# EAGLE library part NEO-6M-GPS (library NEO-6M-GPS)
SMD GPS Module;
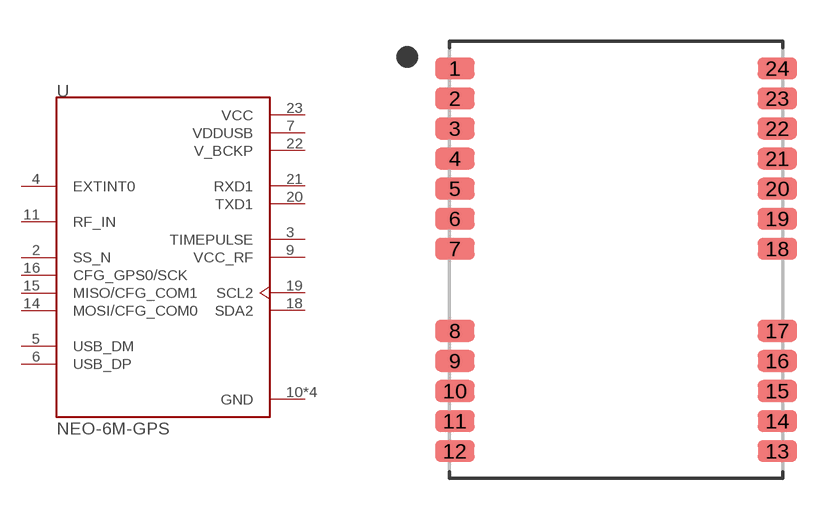
[diagram p0: symbol with the pads of XCVR_NEO-6M-GPS; footprint XCVR_NEO-6M-GPS]

Designator prefix U

## NEO-6M-GPS (Availability: Unavailable; Description: SMD GPS Module;; MF: u-blox; MP: NEO-6M-GPS; Package: None; Price: None)  [XCVR_NEO-6M-GPS]
2  SS_N  in
3  TIMEPULSE  out
4  EXTINT0  in
5  USB_DM
6  USB_DP
7  VDDUSB  pwr
9  VCC_RF  out
10  GND  pwr
11  RF_IN  in
12  GND  pwr
13  GND  pwr
14  MOSI/CFG_COM0
15  MISO/CFG_COM1  in
16  CFG_GPS0/SCK  in
18  SDA2
19  SCL2
20  TXD1  out
21  RXD1  in
22  V_BCKP  pwr
23  VCC  pwr
24  GND  pwr

## Footprint XCVR_NEO-6M-GPS (pad centres in mm)
smd 1.44 x 0.79: 1 -5.895,7; 2 -5.895,5.9; 3 -5.895,4.8; 4 -5.895,3.7; 5 -5.895,2.6; 6 -5.895,1.5; 7 -5.895,0.4; 8 -5.895,-2.6; 9 -5.895,-3.7; 10 -5.895,-4.8; 11 -5.895,-5.9; 12 -5.895,-7; 13 5.895,-7; 14 5.895,-5.9; 15 5.895,-4.8; 16 5.895,-3.7; 17 5.895,-2.6; 18 5.895,0.4; 19 5.895,1.5; 20 5.895,2.6; 21 5.895,3.7; 22 5.895,4.8; 23 5.895,5.9; 24 5.895,7